# EAGLE library part 46114-1017 (library molex_046114-v2)
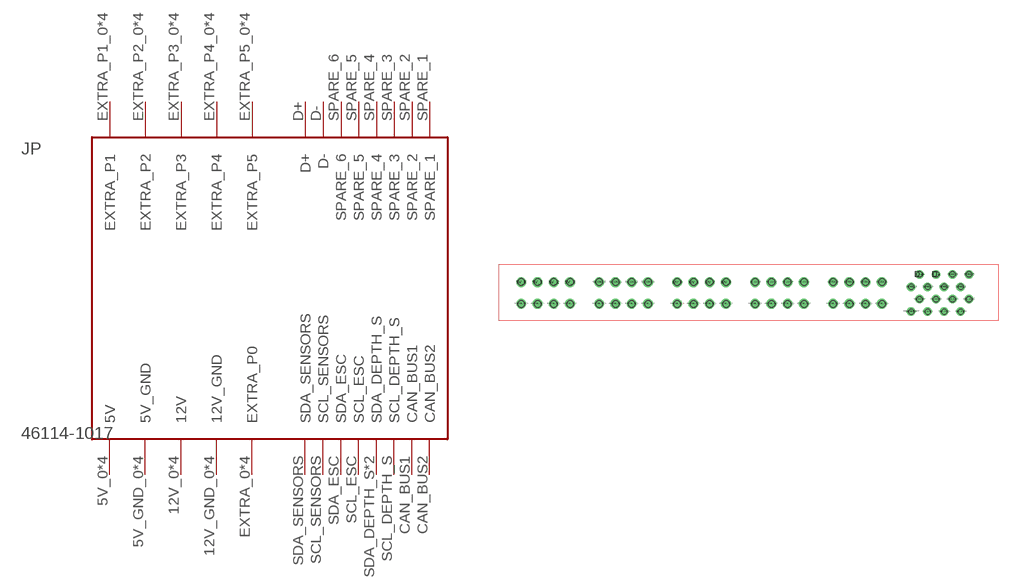
[diagram p0: symbol with the pads of 46114-1017; footprint 46114-1017]

Designator prefix JP

## 46114-1017  [46114-1017]
5V_0  5V
5V_1  5V
5V_2  5V
5V_3  5V
5V_GND_0  5V_GND
5V_GND_1  5V_GND
5V_GND_2  5V_GND
5V_GND_3  5V_GND
12V_0  12V
12V_1  12V
12V_2  12V
12V_3  12V
12V_GND_0  12V_GND
12V_GND_1  12V_GND
12V_GND_2  12V_GND
12V_GND_3  12V_GND
CAN_BUS1  CAN_BUS1
CAN_BUS2  CAN_BUS2
D+  D+
D-  D-
EXTRA_0  EXTRA_P0
EXTRA_1  EXTRA_P0
EXTRA_2  EXTRA_P0
EXTRA_3  EXTRA_P0
EXTRA_P1_0  EXTRA_P1
EXTRA_P1_1  EXTRA_P1
EXTRA_P1_2  EXTRA_P1
EXTRA_P1_3  EXTRA_P1
EXTRA_P2_0  EXTRA_P2
EXTRA_P2_1  EXTRA_P2
EXTRA_P2_2  EXTRA_P2
EXTRA_P2_3  EXTRA_P2
EXTRA_P3_0  EXTRA_P3
EXTRA_P3_1  EXTRA_P3
EXTRA_P3_2  EXTRA_P3
EXTRA_P3_3  EXTRA_P3
EXTRA_P4_0  EXTRA_P4
EXTRA_P4_1  EXTRA_P4
EXTRA_P4_2  EXTRA_P4
EXTRA_P4_3  EXTRA_P4
EXTRA_P5_0  EXTRA_P5
EXTRA_P5_1  EXTRA_P5
EXTRA_P5_2  EXTRA_P5
EXTRA_P5_3  EXTRA_P5
SCL_DEPTH_S  SCL_DEPTH_S
SCL_ESC  SCL_ESC
SCL_SENSORS  SCL_SENSORS
SDA_DEPTH_S  SDA_DEPTH_S
SDA_DEPTH_SENSOR  SDA_DEPTH_S
SDA_ESC  SDA_ESC
SDA_SENSORS  SDA_SENSORS
SPARE_1  SPARE_1
SPARE_2  SPARE_2
SPARE_3  SPARE_3
SPARE_4  SPARE_4
SPARE_5  SPARE_5
SPARE_6  SPARE_6

## Footprint 46114-1017 (pad centres in mm)
drill 1: 5V_0 0,3.33; 5V_1 2.5,3.33; 5V_2 5,3.33; 5V_3 7.5,3.33; 5V_GND_0 12,3.33; 5V_GND_1 14.5,3.33; 5V_GND_2 17,3.33; 5V_GND_3 19.5,3.33; 12V_0 24,3.33; 12V_1 26.5,3.33; 12V_2 29,3.33; 12V_3 31.5,3.33; 12V_GND_0 36,3.33; 12V_GND_1 38.5,3.33; 12V_GND_2 41,3.33; 12V_GND_3 43.5,3.33; EXTRA_0 48,3.33; EXTRA_1 50.5,3.33; EXTRA_2 53,3.33; EXTRA_3 55.5,3.33; EXTRA_P1_0 0,0; EXTRA_P1_1 2.5,0; EXTRA_P1_2 5,0; EXTRA_P1_3 7.5,0; EXTRA_P2_0 12,0; EXTRA_P2_1 14.5,0; EXTRA_P2_2 17,0; EXTRA_P2_3 19.5,0; EXTRA_P3_0 24,0; EXTRA_P3_1 26.5,0; EXTRA_P3_2 29,0; EXTRA_P3_3 31.5,0; EXTRA_P4_0 36,0; EXTRA_P4_1 38.5,0; EXTRA_P4_2 41,0; EXTRA_P4_3 43.5,0; EXTRA_P5_0 48,0; EXTRA_P5_1 50.5,0; EXTRA_P5_2 53,0; EXTRA_P5_3 55.5,0
drill 0.8: CAN_BUS1 65.11,-1.21; CAN_BUS2 67.65,-1.21; D+ 61.3,4.52; D- 63.84,4.52; SCL_DEPTH_S 62.57,-1.21; SCL_ESC 68.92,0.7; SCL_SENSORS 63.84,0.7; SDA_DEPTH_S 60.03,-1.21; SDA_DEPTH_SENSOR 60.03,-1.21; SDA_ESC 66.38,0.7; SDA_SENSORS 61.3,0.7; SPARE_1 67.65,2.61; SPARE_2 65.11,2.61; SPARE_3 62.57,2.61; SPARE_4 60.03,2.61; SPARE_5 68.92,4.52; SPARE_6 66.38,4.52
hole 1 at 0,0
hole 1 at 2.5,0
hole 1 at 5,0
hole 1 at 7.5,0
hole 1 at 12,0
hole 1 at 14.5,0
hole 1 at 17,0
hole 1 at 19.5,0
hole 1 at 24,0
hole 1 at 26.5,0
hole 1 at 29,0
hole 1 at 31.5,0
hole 1 at 36,0
hole 1 at 38.5,0
hole 1 at 41,0
hole 1 at 43.5,0
hole 1 at 50.5,0
hole 1 at 53,0
hole 1 at 55.5,0
hole 1 at 48,0
hole 1 at 0,3.33
hole 1 at 2.5,3.33
hole 1 at 5,3.33
hole 1 at 7.5,3.33
hole 1 at 12,3.33
hole 1 at 14.5,3.33
hole 1 at 17,3.33
hole 1 at 19.5,3.33
hole 1 at 24,3.33
hole 1 at 26.5,3.33
hole 1 at 29,3.33
hole 1 at 31.5,3.33
hole 1 at 36,3.33
hole 1 at 38.5,3.33
hole 1 at 41,3.33
hole 1 at 43.5,3.33
hole 1 at 48,3.33
hole 1 at 50.5,3.33
hole 1 at 53,3.33
hole 1 at 55.5,3.33
hole 0.8 at 61.3,4.52
hole 0.8 at 63.84,4.52
hole 0.8 at 66.38,4.52
hole 0.8 at 68.92,4.52
hole 0.8 at 60.03,2.61
hole 0.8 at 62.57,2.61
hole 0.8 at 65.11,2.61
hole 0.8 at 67.65,2.61
hole 0.8 at 61.3,0.7
hole 0.8 at 63.84,0.7
hole 0.8 at 66.38,0.7
hole 0.8 at 68.92,0.7
hole 0.8 at 60.03,-1.21
hole 0.8 at 62.57,-1.21
hole 0.8 at 65.11,-1.21
hole 0.8 at 67.65,-1.21